# EAGLE library part ATTINY24/44/84 (library ingolia)
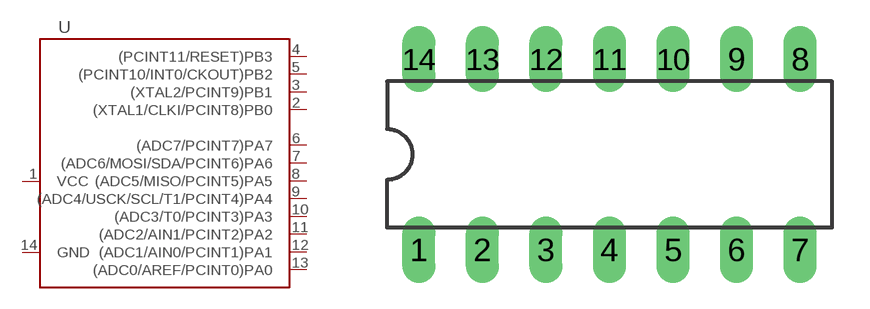
[diagram p5: symbol with the pads of DIL14; footprint DIL14]

Designator prefix -

## ATTINY24/44/84  [DIL14]
1  VCC  pwr
2  (XTAL1/CLKI/PCINT8)PB0
3  (XTAL2/PCINT9)PB1
4  (PCINT11/RESET)PB3
5  (PCINT10/INT0/CKOUT)PB2
6  (ADC7/PCINT7)PA7
7  (ADC6/MOSI/SDA/PCINT6)PA6
8  (ADC5/MISO/PCINT5)PA5
9  (ADC4/USCK/SCL/T1/PCINT4)PA4
10  (ADC3/T0/PCINT3)PA3
11  (ADC2/AIN1/PCINT2)PA2
12  (ADC1/AIN0/PCINT1)PA1
13  (ADC0/AREF/PCINT0)PA0
14  GND  pwr

## Footprint DIL14 (pad centres in mm)
Dual In Line Package
drill 0.813 long: 1 -7.62,-3.81; 2 -5.08,-3.81; 3 -2.54,-3.81; 4 0,-3.81; 5 2.54,-3.81; 6 5.08,-3.81; 7 7.62,-3.81; 8 7.62,3.81; 9 5.08,3.81; 10 2.54,3.81; 11 0,3.81; 12 -2.54,3.81; 13 -5.08,3.81; 14 -7.62,3.81